# EAGLE library part SIRA50DP-T1-RE3 (library SIRA50DP-T1-RE3)
MOSFET 40V Vds 20V Vgs PowerPAK SO-8 Source: Datasheet <https://ms.componentsearchengine.com/Datasheets/2/SIRA50DP-T1-RE3.pdf>
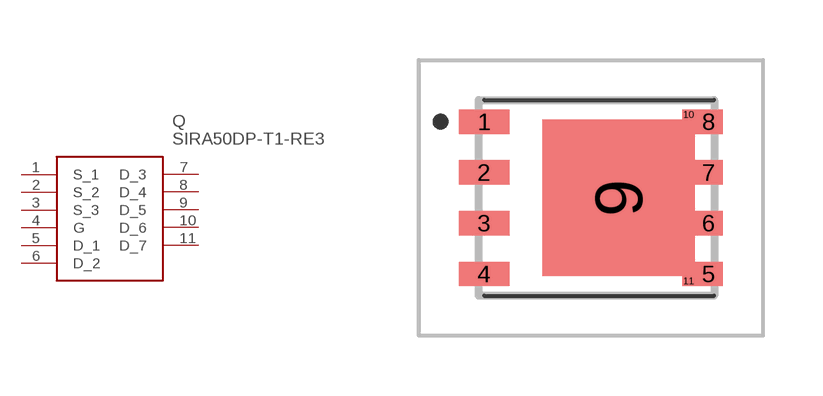
[diagram p0: symbol with the pads of SI7852ADPT1GE3; footprint SI7852ADPT1GE3]

Designator prefix Q

## SIRA50DP-T1-RE3 (Arrow_Part_Number: SIRA50DP-T1-RE3; Arrow_Price-Stock: https://www.arrow.com/en/products/sira50dp-t1-re3/vishay; Description: MOSFET 40V Vds 20V Vgs PowerPAK SO-8; Height: 1.12mm; Manufacturer_Name: Vishay; Manufacturer_Part_Number: SIRA50DP-T1-RE3; Mouser_Part_Number: 78-SIRA50DP-T1-RE3; Mouser_Price-Stock: https://www.mouser.co.uk/ProductDetail/Vishay-Siliconix/SIRA50DP-T1-RE3/?qs=chTDxNqvsykRqxCKz2maeQ%3D%3D)  [SI7852ADPT1GE3]
1  S_1
2  S_2
3  S_3
4  G
5  D_1
6  D_2
7  D_3
8  D_4
9  D_5
10  D_6
11  D_7

## Footprint SI7852ADPT1GE3 (pad centres in mm)
PowerPAK SO-8 Single
smd 1.27 x 0.61: 1 -2.81,1.905; 2 -2.81,0.635; 3 -2.81,-0.635; 4 -2.81,-1.905
smd 0.71 x 0.61: 5 2.81,-1.905; 6 2.81,-0.635; 7 2.81,0.635; 8 2.81,1.905
smd 3.81 x 3.91: 9 0.55,0
smd 0.31 x 0.255: 10 2.3,2.083; 11 2.3,-2.083